# Altium schematic symbol library Bandgap Reference.SchLib: 4 symbols
Pins are listed as number, name and electrical type; pins without a type are passive.

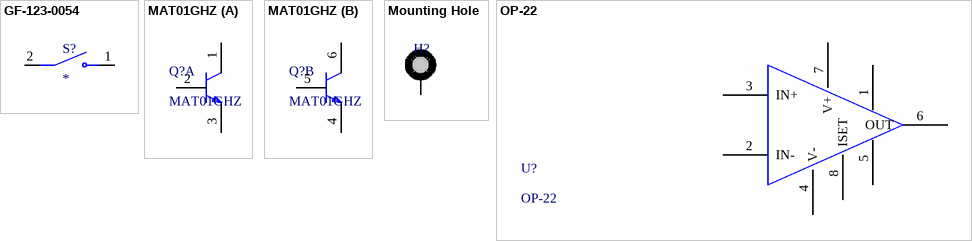
[diagram p0: symbols GF-123-0054 to OP-22]

## GF-123-0054
designator S?
Slide Switch SPST Through Hole; MP: GF-123-0054; Package: None; Value: *; Availability: Unavailable; Price: None
footprint SW_GF-123-0054
pins: 1, 2

## MAT01GHZ
designator Q?
TRANS 2NPN 45V 0.025A TO78-6; Transition Frequency: Mhz; Element Configuration: Dual; hFE Min: 250; Max Power Dissipation: 500mW; Max Collector Current: 25mA; RoHS Compliant: Yes; Max Operating Temperature: 125°C; Collector Emitter Voltage (VCEO): 45V; Case/Package: TO-78; Height: 4.7mm; Min Operating Temperature: -55°C
footprint FP-H-06-MFG
part A pins: 1, 2, 3
part B pins: 4, 5, 6

## Mounting Hole
designator H?  (value not drawn)
footprint Mounting Hole
pins: 1

## OP-22
designator U?
Programmable micropower operational amplifier; Mfr_Name: Analog Devices; RefDes: RefDes; Type: Type; ComponentLink1Description: Datasheet; ComponentLink1URL: https://bg-electronics.de/datenblaetter/Schaltkreise/OP22.pdf
footprint CERDIP8_300MC_MCH
pins: 1 BAL, 2 IN-, 3 IN+, 4 V-, 5 BAL, 6 OUT, 7 V+, 8 ISET